# Altium schematic symbol library MX25R6435FZAIH0.SchLib: 1 symbol
Pins are listed as number, name and electrical type; pins without a type are passive.

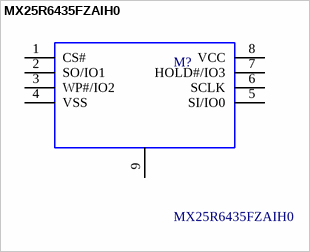
[diagram p0: symbol MX25R6435FZAIH0]

## MX25R6435FZAIH0
designator M?
FLASH - NOR Memory IC 64Mb (8M x 8) SPI 80MHz 8-USON (4x4); Manufacturer_Name: Cypress Semiconductor; Manufacturer_Part_Number: S25FL064LABNFI043; Geometry.Height: 0.6mm; Arrow Part Number: S25FL064LABNFI043; Datasheet Link: https://www.arrow.com/en/products/s25fl064labnfi043/cypress-semiconductor
footprint SON80P400X400X60-9N
pins: 1 CS#, 2 SO/IO1, 3 WP#/IO2, 4 VSS, 5 SI/IO0, 6 SCLK, 7 HOLD#/IO3, 8 VCC, 9 ~{}